# EAGLE library part RTC-DC3231 (library MyComp)
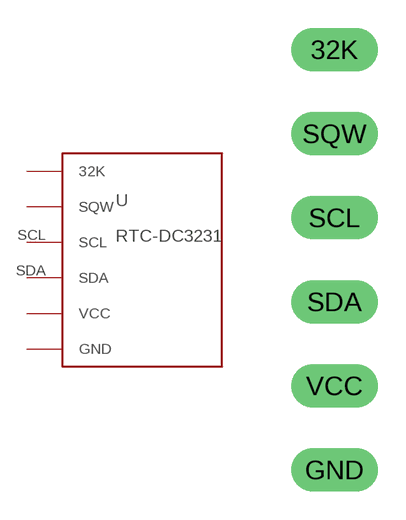
[diagram p1: symbol with the pads of RTC-DC3231; footprint RTC-DC3231]

Designator prefix -

## RTC-DC3231  [RTC-DC3231]
32K  32K
GND  GND  pwr
SCL  SCL
SDA  SDA
SQW  SQW
VCC  VCC  pwr

## Footprint RTC-DC3231 (pad centres in mm)
drill 0.8 long: 32K 0,7.62; GND 0,-5.08; SCL 0,2.54; SDA 0,0; SQW 0,5.08; VCC 0,-2.54